# Altium schematic symbol library Linear Comparators.SchLib: 1 symbol
Pins are listed as number, name and electrical type; pins without a type are passive.

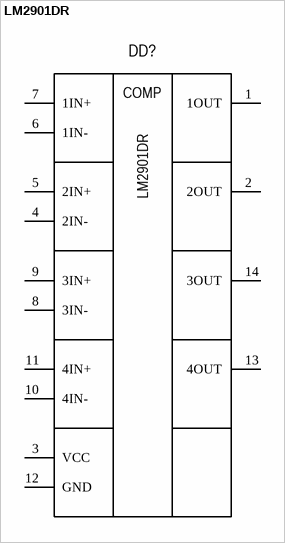
[diagram p0: symbol LM2901DR]

## LM2901DR
designator DD?
LIN COMP 4CH SOIC-14; Manufacturer: Texas Instruments; Group: Digital; Voltage supply: 2V - 30V; Chanels: 4; Current output: 20mA; Component: Linear Comparator; Package: SOIC-14; Part name: LM2901DR; Operating temperature: -40°C +125°C; Height: 1.75mm; Dimension: 8.75mm x 6.20mm; Mounting type: Surface mount
footprint SOIC-14N
pins: 1 1OUT, 2 2OUT, 3 VCC, 4 2IN-, 5 2IN+, 6 1IN-, 7 1IN+, 8 3IN-, 9 3IN+, 10 4IN-, 11 4IN+, 12 GND, 13 4OUT, 14 3OUT
text: COMP